# EAGLE library part AT45DB641A (library AT45DB641A)
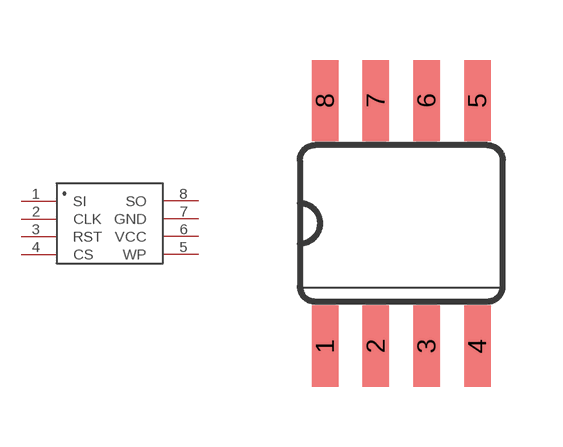
[diagram p0: symbol with the pads of SO08; footprint SO08]

Designator prefix -

## AT45DB641A  [SO08]
1  SI
2  CLK
3  RST
4  CS
5  WP
6  VCC
7  GND
8  SO

## Footprint SO08 (pad centres in mm)
Small Outline Package SOIC 150 mil
smd 0.66 x 2.032: 1 -1.905,-3.073; 2 -0.635,-3.073; 3 0.635,-3.073; 4 1.905,-3.073; 5 1.905,3.073; 6 0.635,3.073; 7 -0.635,3.073; 8 -1.905,3.073